# Altium integrated library LOGIC IC - SHIFT REGISTER.IntLib: 2 symbols
Pins are listed as number, name and electrical type; pins without a type are passive.

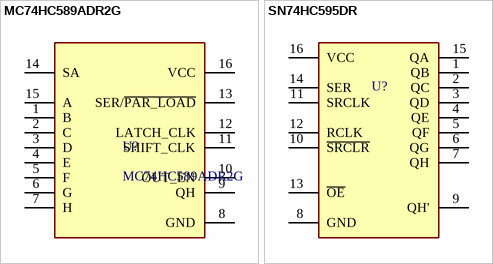
[diagram p0: symbols MC74HC589ADR2G to SN74HC595DR]

## MC74HC589ADR2G
designator U?
8-stage, Shift Register, Parallel to Serial; LCSC: C7343
footprint SOIC127P600X175-16N (SOIC, 16-Leads, Body 9.90x3.90mm, Pitch 1.27mm, IPC Medium Density)
pins: 1 B, 2 C, 3 D, 4 E, 5 F, 6 G, 7 H, 8 GND, 9 QH, 10 OUT_EN, 11 SHIFT_CLK, 12 LATCH_CLK, 13 SER/~{PAR_LOAD}, 14 SA, 15 A, 16 VCC

## SN74HC595DR
designator U?  (value not drawn)
8-Bit Shift Register 3-state; LCSC: C10092
footprint SOIC127P600X175-16N (SOIC, 16-Leads, Body 9.90x3.90mm, Pitch 1.27mm, IPC Medium Density)
pins: 1 QB, 2 QC, 3 QD, 4 QE, 5 QF, 6 QG, 7 QH, 8 GND, 9 QH', 10 ~{SRCLR}, 11 SRCLK, 12 RCLK, 13 ~{OE}, 14 SER, 15 QA, 16 VCC